# EAGLE library part MPU-6050 (library MPU-6050)
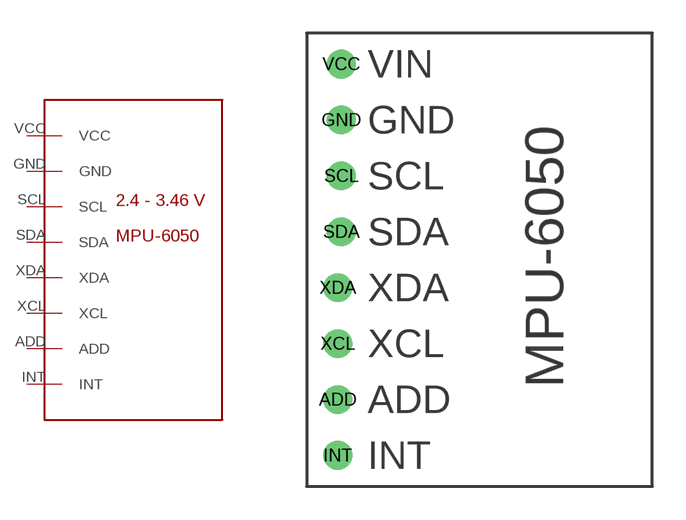
[diagram p0: symbol with the pads of MPU-6050; footprint MPU-6050]

Designator prefix -

## MPU-6050  [MPU-6050]
ADD  ADD
GND  GND
INT  INT
SCL  SCL
SDA  SDA
VCC  VCC
XCL  XCL
XDA  XDA

## Footprint MPU-6050 (pad centres in mm)
drill 0.8: ADD -5.16,-11.43; GND -5,1.27; INT -5.16,-13.97; SCL -5,-1.27; SDA -5,-3.81; VCC -5,3.81; XCL -5.16,-8.89; XDA -5.16,-6.35